# Altium schematic symbol library Littlelfuse.SchLib: 3 symbols
Pins are listed as number, name and electrical type; pins without a type are passive.

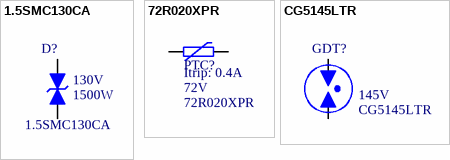
[diagram p0: symbols 1.5SMC130CA to CG5145LTR]

## 1.5SMC130CA
designator D?  Voltage: 130V  Power: 1500W  (hidden comment: 1.5SMC130CA)
TVS Diode 1.5kW 130V 5% Bi-Directional; Manufacturer: Littelfuse; Supplier 1: Digi-Key; Supplier 2: Mouser; Supplier Part Number 1: 1.5SMC130CACT-ND; Supplier Part Number 2: 576-1.5SMC130CA; PartNumber: 1.5SMC130CA
footprint SMC - BIIDIR
pins: 1 A, 2 K

## 72R020XPR
designator PTC?  Voltage: 72V  Itrip: 0.4A  (hidden comment: 72R020XPR)
PTC Polyfuse Radial 72V 0.2A; Manufacturer: Littlelfuse; Ihold: 0.2A; Supplier 1: Digi-Key; Supplier 2: Mouser; Supplier Part Number 1: 72R020XPRCT-ND; Supplier Part Number 2: 576-72R020XPR; PartNumber: 72R020XPR
footprint LITTLELFUSE-72R020X
pins: 1, 2

## CG5145LTR
designator GDT?  Voltage: 145V  (hidden comment: CG5145LTR)
Gas Discharge Tube 145V; Manufacturer: Littelfuse; Supplier 1: Digi-Key; Supplier 2: Mouser; Supplier Part Number 1: CG5145LTR-ND; Supplier Part Number 2: 576-CG5145LTR; PartNumber: CG5145LTR
footprint LITTLELFUSE-CG5XXXLTR
pins: 1 A, 2 K